# Altium schematic symbol library 0532610271.SchLib: 1 symbol
Pins are listed as number, name and electrical type; pins without a type are passive.

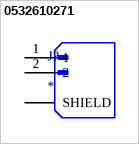
[diagram p0: symbol 0532610271]

## 0532610271
designator J?
Picoblade Connector, 2 Circuit Single Row, Right Angle Surface Mount SMT PCB; MF: {'manufacturer': u'Molex'}; MP: 0532610271; Availability: Unavailable; Package: None; Value: *; Price: None
footprint MOLEX_0532610271
pins: 1, 2, S1 SHIELD, S2 SHIELD